# Altium integrated library Motorola Microprocessor 8-Bit.IntLib: 126 symbols (part 1 of 3)
Pins are listed as number, name and electrical type; pins without a type are passive.

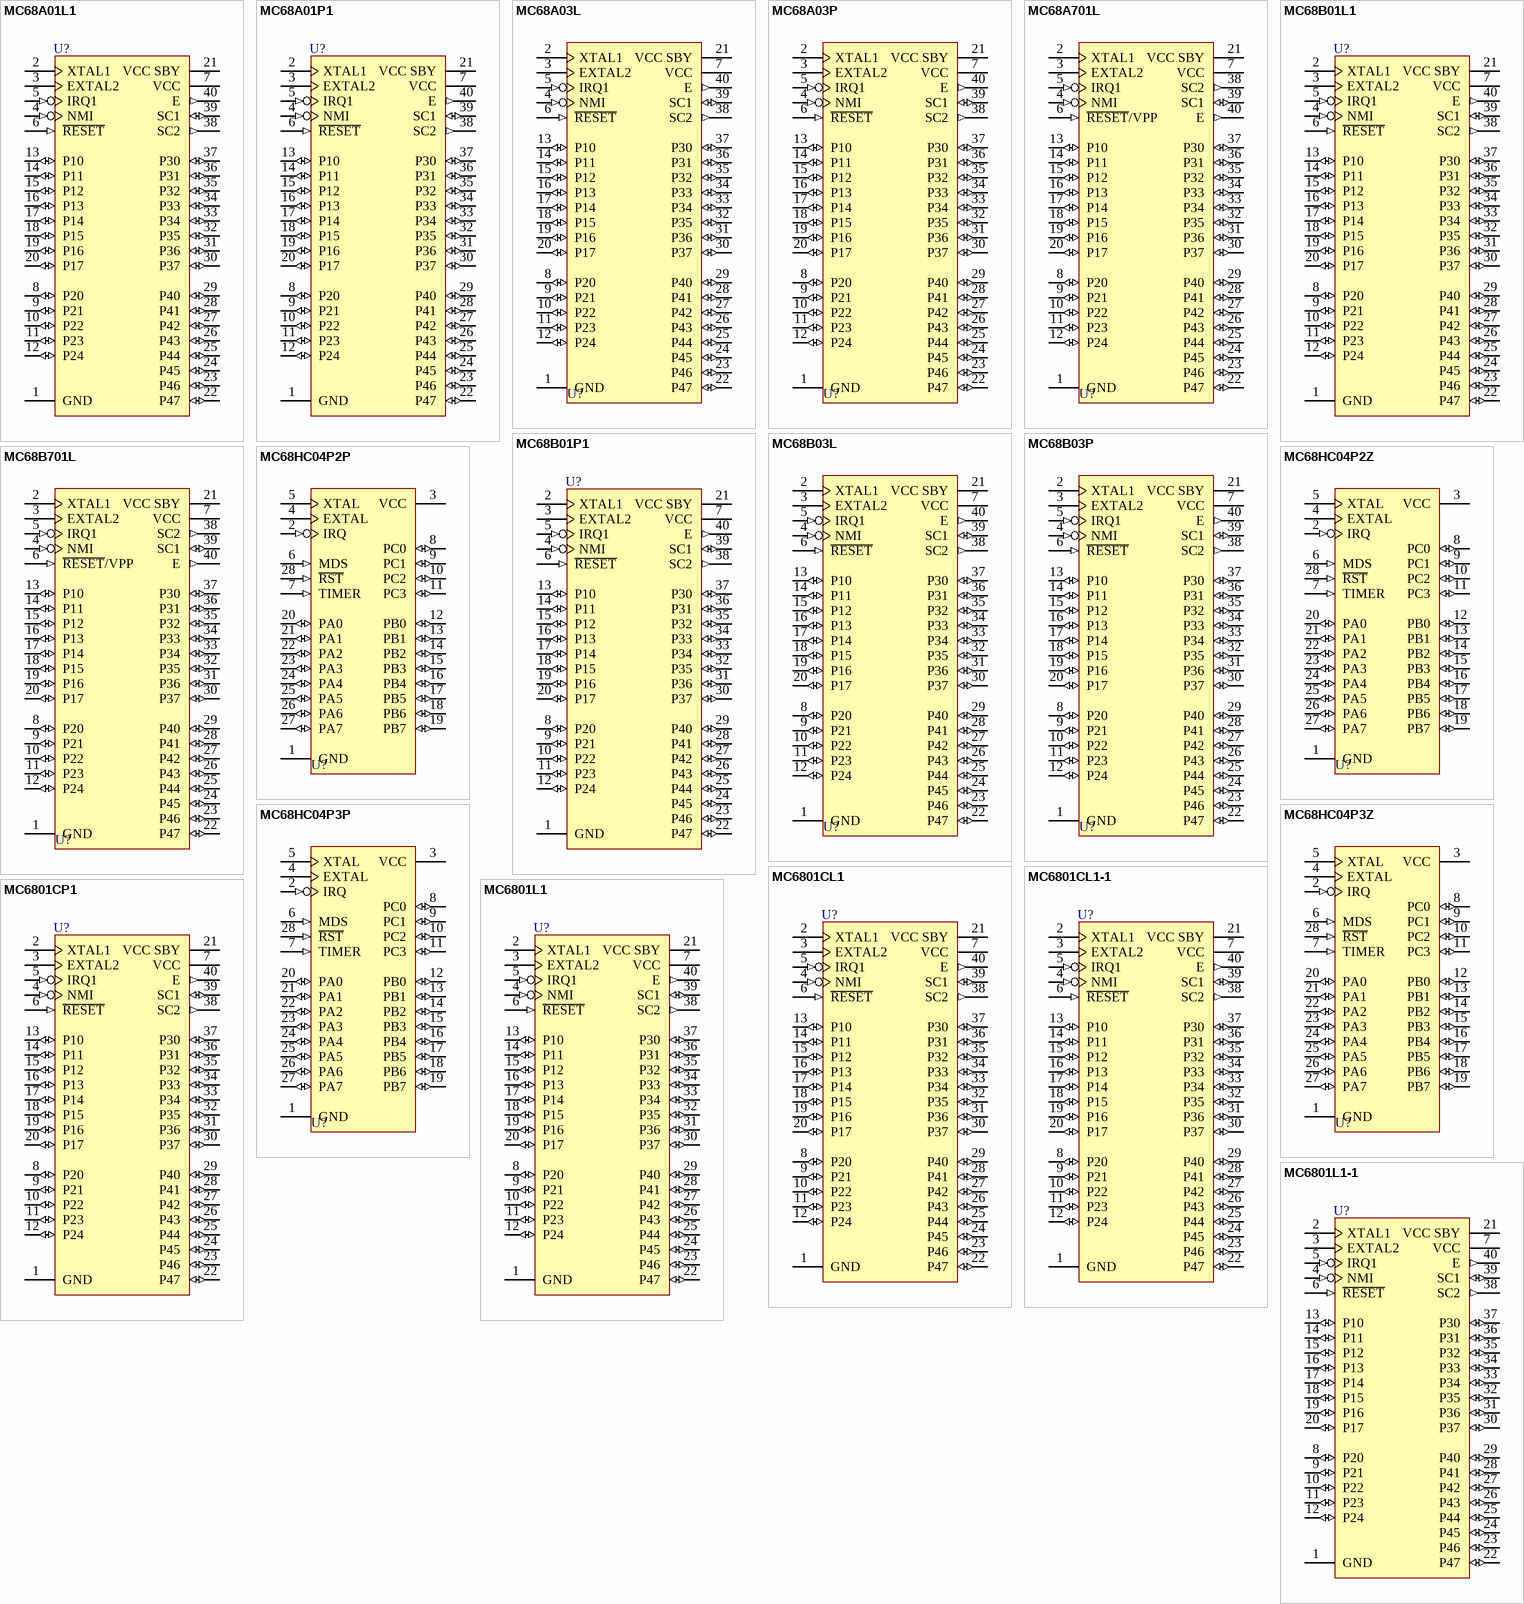
[diagram p0: symbols MC68A01L1 to MC6801L1-1]

## MC68A01L1
designator U?
8-Bit Microcomputer; Published: 17-Jul-2002; LatestRevisionDate: 06-Jun-2005; LatestRevisionNote: Stylized 3D Model Added.; DatasheetVersion: 1984; PackageReference: 715-05; Publisher: Altium Limited; PackageDescription: DIP; 40 Leads; Row Spacing 15.24 mm; Pitch 2.54 mm
footprint 715-05 (DIP; 40 Leads; Row Spacing 15.24 mm; Pitch 2.54 mm)
3D model 715-05 (DIP; 40 Leads; Row Spacing 15.24 mm; Pitch 2.54 mm)
pins: 1 GND (power), 2 XTAL1, 3 EXTAL2, 4 NMI (in), 5 IRQ1 (in), 6 ~{RESET} (in), 7 VCC (power), 8 P20 (io), 9 P21 (io), 10 P22 (io), 11 P23 (io), 12 P24 (io), 13 P10 (io), 14 P11 (io), 15 P12 (io), 16 P13 (io), 17 P14 (io), 18 P15 (io), 19 P16 (io), 20 P17 (io), 21 VCC SBY (power), 22 P47 (io), 23 P46 (io), 24 P45 (io), 25 P44 (io), 26 P43 (io), 27 P42 (io), 28 P41 (io), 29 P40 (io), 30 P37 (io), 31 P36 (io), 32 P35 (io), 33 P34 (io), 34 P33 (io), 35 P32 (io), 36 P31 (io), 37 P30 (io), 38 SC2 (out), 39 SC1 (io), 40 E (out)

## MC68A01P1
designator U?
8-Bit Microcomputer; Published: 17-Jul-2002; LatestRevisionDate: 06-Jun-2005; LatestRevisionNote: Stylized 3D Model Added.; DatasheetVersion: 1984; PackageReference: 711-03; Publisher: Altium Limited; PackageDescription: DIP; 40 Leads; Row Spacing 15.24 mm; Pitch 2.54 mm
footprint 711-03 (DIP; 40 Leads; Row Spacing 15.24 mm; Pitch 2.54 mm)
3D model 711-03 (DIP; 40 Leads; Row Spacing 15.24 mm; Pitch 2.54 mm)
pins: 1 GND (power), 2 XTAL1, 3 EXTAL2, 4 NMI (in), 5 IRQ1 (in), 6 ~{RESET} (in), 7 VCC (power), 8 P20 (io), 9 P21 (io), 10 P22 (io), 11 P23 (io), 12 P24 (io), 13 P10 (io), 14 P11 (io), 15 P12 (io), 16 P13 (io), 17 P14 (io), 18 P15 (io), 19 P16 (io), 20 P17 (io), 21 VCC SBY (power), 22 P47 (io), 23 P46 (io), 24 P45 (io), 25 P44 (io), 26 P43 (io), 27 P42 (io), 28 P41 (io), 29 P40 (io), 30 P37 (io), 31 P36 (io), 32 P35 (io), 33 P34 (io), 34 P33 (io), 35 P32 (io), 36 P31 (io), 37 P30 (io), 38 SC2 (out), 39 SC1 (io), 40 E (out)

## MC68A03L
designator U?
8-Bit Microcomputer; Published: 17-Jul-2002; LatestRevisionDate: 06-Jun-2005; LatestRevisionNote: Stylized 3D Model Added.; DatasheetVersion: 1984; PackageReference: 715-05; Publisher: Altium Limited; PackageDescription: DIP; 40 Leads; Row Spacing 15.24 mm; Pitch 2.54 mm
footprint 715-05 (DIP; 40 Leads; Row Spacing 15.24 mm; Pitch 2.54 mm)
3D model 715-05 (DIP; 40 Leads; Row Spacing 15.24 mm; Pitch 2.54 mm)
pins: 1 GND (power), 2 XTAL1, 3 EXTAL2, 4 NMI (in), 5 IRQ1 (in), 6 ~{RESET} (in), 7 VCC (power), 8 P20 (io), 9 P21 (io), 10 P22 (io), 11 P23 (io), 12 P24 (io), 13 P10 (io), 14 P11 (io), 15 P12 (io), 16 P13 (io), 17 P14 (io), 18 P15 (io), 19 P16 (io), 20 P17 (io), 21 VCC SBY (power), 22 P47 (io), 23 P46 (io), 24 P45 (io), 25 P44 (io), 26 P43 (io), 27 P42 (io), 28 P41 (io), 29 P40 (io), 30 P37 (io), 31 P36 (io), 32 P35 (io), 33 P34 (io), 34 P33 (io), 35 P32 (io), 36 P31 (io), 37 P30 (io), 38 SC2 (out), 39 SC1 (io), 40 E (out)

## MC68A03P
designator U?
8-Bit Microcomputer; Published: 17-Jul-2002; LatestRevisionDate: 06-Jun-2005; LatestRevisionNote: Stylized 3D Model Added.; DatasheetVersion: 1984; PackageReference: 711-03; Publisher: Altium Limited; PackageDescription: DIP; 40 Leads; Row Spacing 15.24 mm; Pitch 2.54 mm
footprint 711-03 (DIP; 40 Leads; Row Spacing 15.24 mm; Pitch 2.54 mm)
3D model 711-03 (DIP; 40 Leads; Row Spacing 15.24 mm; Pitch 2.54 mm)
pins: 1 GND (power), 2 XTAL1, 3 EXTAL2, 4 NMI (in), 5 IRQ1 (in), 6 ~{RESET} (in), 7 VCC (power), 8 P20 (io), 9 P21 (io), 10 P22 (io), 11 P23 (io), 12 P24 (io), 13 P10 (io), 14 P11 (io), 15 P12 (io), 16 P13 (io), 17 P14 (io), 18 P15 (io), 19 P16 (io), 20 P17 (io), 21 VCC SBY (power), 22 P47 (io), 23 P46 (io), 24 P45 (io), 25 P44 (io), 26 P43 (io), 27 P42 (io), 28 P41 (io), 29 P40 (io), 30 P37 (io), 31 P36 (io), 32 P35 (io), 33 P34 (io), 34 P33 (io), 35 P32 (io), 36 P31 (io), 37 P30 (io), 38 SC2 (out), 39 SC1 (io), 40 E (out)

## MC68A701L
designator U?
EPROM Microcomputer; Published: 17-Jul-2002; LatestRevisionDate: 06-Jun-2005; LatestRevisionNote: Stylized 3D Model Added.; DatasheetVersion: 1984; PackageReference: 715-06; Publisher: Altium Limited; PackageDescription: DIP; 40 Leads; Row Spacing 15.24 mm; Pitch 2.54 mm
footprint 715-06 (DIP; 40 Leads; Row Spacing 15.24 mm; Pitch 2.54 mm)
3D model 715-05 (DIP; 40 Leads; Row Spacing 15.24 mm; Pitch 2.54 mm)
pins: 1 GND (power), 2 XTAL1, 3 EXTAL2, 4 NMI (in), 5 IRQ1 (in), 6 ~{RESET}/VPP (in), 7 VCC (power), 8 P20 (io), 9 P21 (io), 10 P22 (io), 11 P23 (io), 12 P24 (io), 13 P10 (io), 14 P11 (io), 15 P12 (io), 16 P13 (io), 17 P14 (io), 18 P15 (io), 19 P16 (io), 20 P17 (io), 21 VCC SBY (power), 22 P47 (io), 23 P46 (io), 24 P45 (io), 25 P44 (io), 26 P43 (io), 27 P42 (io), 28 P41 (io), 29 P40 (io), 30 P37 (io), 31 P36 (io), 32 P35 (io), 33 P34 (io), 34 P33 (io), 35 P32 (io), 36 P31 (io), 37 P30 (io), 38 SC2 (out), 39 SC1 (io), 40 E (out)

## MC68B01L1
designator U?
8-Bit Microcomputer; Published: 17-Jul-2002; LatestRevisionDate: 06-Jun-2005; LatestRevisionNote: Stylized 3D Model Added.; DatasheetVersion: 1984; PackageReference: 715-05; Publisher: Altium Limited; PackageDescription: DIP; 40 Leads; Row Spacing 15.24 mm; Pitch 2.54 mm
footprint 715-05 (DIP; 40 Leads; Row Spacing 15.24 mm; Pitch 2.54 mm)
3D model 715-05 (DIP; 40 Leads; Row Spacing 15.24 mm; Pitch 2.54 mm)
pins: 1 GND (power), 2 XTAL1, 3 EXTAL2, 4 NMI (in), 5 IRQ1 (in), 6 ~{RESET} (in), 7 VCC (power), 8 P20 (io), 9 P21 (io), 10 P22 (io), 11 P23 (io), 12 P24 (io), 13 P10 (io), 14 P11 (io), 15 P12 (io), 16 P13 (io), 17 P14 (io), 18 P15 (io), 19 P16 (io), 20 P17 (io), 21 VCC SBY (power), 22 P47 (io), 23 P46 (io), 24 P45 (io), 25 P44 (io), 26 P43 (io), 27 P42 (io), 28 P41 (io), 29 P40 (io), 30 P37 (io), 31 P36 (io), 32 P35 (io), 33 P34 (io), 34 P33 (io), 35 P32 (io), 36 P31 (io), 37 P30 (io), 38 SC2 (out), 39 SC1 (io), 40 E (out)

## MC68B01P1
designator U?
8-Bit Microcomputer; Published: 17-Jul-2002; LatestRevisionDate: 06-Jun-2005; LatestRevisionNote: Stylized 3D Model Added.; DatasheetVersion: 1984; PackageReference: 711-03; Publisher: Altium Limited; PackageDescription: DIP; 40 Leads; Row Spacing 15.24 mm; Pitch 2.54 mm
footprint 711-03 (DIP; 40 Leads; Row Spacing 15.24 mm; Pitch 2.54 mm)
3D model 711-03 (DIP; 40 Leads; Row Spacing 15.24 mm; Pitch 2.54 mm)
pins: 1 GND (power), 2 XTAL1, 3 EXTAL2, 4 NMI (in), 5 IRQ1 (in), 6 ~{RESET} (in), 7 VCC (power), 8 P20 (io), 9 P21 (io), 10 P22 (io), 11 P23 (io), 12 P24 (io), 13 P10 (io), 14 P11 (io), 15 P12 (io), 16 P13 (io), 17 P14 (io), 18 P15 (io), 19 P16 (io), 20 P17 (io), 21 VCC SBY (power), 22 P47 (io), 23 P46 (io), 24 P45 (io), 25 P44 (io), 26 P43 (io), 27 P42 (io), 28 P41 (io), 29 P40 (io), 30 P37 (io), 31 P36 (io), 32 P35 (io), 33 P34 (io), 34 P33 (io), 35 P32 (io), 36 P31 (io), 37 P30 (io), 38 SC2 (out), 39 SC1 (io), 40 E (out)

## MC68B03L
designator U?
8-Bit Microcomputer; Published: 17-Jul-2002; LatestRevisionDate: 06-Jun-2005; LatestRevisionNote: Stylized 3D Model Added.; DatasheetVersion: 1984; PackageReference: 715-05; Publisher: Altium Limited; PackageDescription: DIP; 40 Leads; Row Spacing 15.24 mm; Pitch 2.54 mm
footprint 715-05 (DIP; 40 Leads; Row Spacing 15.24 mm; Pitch 2.54 mm)
3D model 715-05 (DIP; 40 Leads; Row Spacing 15.24 mm; Pitch 2.54 mm)
pins: 1 GND (power), 2 XTAL1, 3 EXTAL2, 4 NMI (in), 5 IRQ1 (in), 6 ~{RESET} (in), 7 VCC (power), 8 P20 (io), 9 P21 (io), 10 P22 (io), 11 P23 (io), 12 P24 (io), 13 P10 (io), 14 P11 (io), 15 P12 (io), 16 P13 (io), 17 P14 (io), 18 P15 (io), 19 P16 (io), 20 P17 (io), 21 VCC SBY (power), 22 P47 (io), 23 P46 (io), 24 P45 (io), 25 P44 (io), 26 P43 (io), 27 P42 (io), 28 P41 (io), 29 P40 (io), 30 P37 (io), 31 P36 (io), 32 P35 (io), 33 P34 (io), 34 P33 (io), 35 P32 (io), 36 P31 (io), 37 P30 (io), 38 SC2 (out), 39 SC1 (io), 40 E (out)

## MC68B03P
designator U?
8-Bit Microcomputer; Published: 17-Jul-2002; LatestRevisionDate: 06-Jun-2005; LatestRevisionNote: Stylized 3D Model Added.; DatasheetVersion: 1984; PackageReference: 711-03; Publisher: Altium Limited; PackageDescription: DIP; 40 Leads; Row Spacing 15.24 mm; Pitch 2.54 mm
footprint 711-03 (DIP; 40 Leads; Row Spacing 15.24 mm; Pitch 2.54 mm)
3D model 711-03 (DIP; 40 Leads; Row Spacing 15.24 mm; Pitch 2.54 mm)
pins: 1 GND (power), 2 XTAL1, 3 EXTAL2, 4 NMI (in), 5 IRQ1 (in), 6 ~{RESET} (in), 7 VCC (power), 8 P20 (io), 9 P21 (io), 10 P22 (io), 11 P23 (io), 12 P24 (io), 13 P10 (io), 14 P11 (io), 15 P12 (io), 16 P13 (io), 17 P14 (io), 18 P15 (io), 19 P16 (io), 20 P17 (io), 21 VCC SBY (power), 22 P47 (io), 23 P46 (io), 24 P45 (io), 25 P44 (io), 26 P43 (io), 27 P42 (io), 28 P41 (io), 29 P40 (io), 30 P37 (io), 31 P36 (io), 32 P35 (io), 33 P34 (io), 34 P33 (io), 35 P32 (io), 36 P31 (io), 37 P30 (io), 38 SC2 (out), 39 SC1 (io), 40 E (out)

## MC68B701L
designator U?
EPROM Microcomputer; Published: 17-Jul-2002; LatestRevisionDate: 06-Jun-2005; LatestRevisionNote: Stylized 3D Model Added.; DatasheetVersion: 1984; PackageReference: 715-06; Publisher: Altium Limited; PackageDescription: DIP; 40 Leads; Row Spacing 15.24 mm; Pitch 2.54 mm
footprint 715-06 (DIP; 40 Leads; Row Spacing 15.24 mm; Pitch 2.54 mm)
3D model 715-05 (DIP; 40 Leads; Row Spacing 15.24 mm; Pitch 2.54 mm)
pins: 1 GND (power), 2 XTAL1, 3 EXTAL2, 4 NMI (in), 5 IRQ1 (in), 6 ~{RESET}/VPP (in), 7 VCC (power), 8 P20 (io), 9 P21 (io), 10 P22 (io), 11 P23 (io), 12 P24 (io), 13 P10 (io), 14 P11 (io), 15 P12 (io), 16 P13 (io), 17 P14 (io), 18 P15 (io), 19 P16 (io), 20 P17 (io), 21 VCC SBY (power), 22 P47 (io), 23 P46 (io), 24 P45 (io), 25 P44 (io), 26 P43 (io), 27 P42 (io), 28 P41 (io), 29 P40 (io), 30 P37 (io), 31 P36 (io), 32 P35 (io), 33 P34 (io), 34 P33 (io), 35 P32 (io), 36 P31 (io), 37 P30 (io), 38 SC2 (out), 39 SC1 (io), 40 E (out)

## MC68HC04P2P
designator U?
8-Bit HCMOS Microcomputer Unit; Published: 17-Jul-2002; LatestRevisionDate: 06-Jun-2005; LatestRevisionNote: Stylized 3D Model Added.; DatasheetVersion: 1984; PackageReference: 710-02; Publisher: Altium Limited; PackageDescription: DIP; 28 Leads; Row Spacing 15.24 mm; Pitch 2.54 mm
footprint 710-02 (DIP; 28 Leads; Row Spacing 15.24 mm; Pitch 2.54 mm)
3D model 710-02 (DIP; 28 Leads; Row Spacing 15.24 mm; Pitch 2.54 mm)
pins: 1 GND (power), 2 IRQ (in), 3 VCC (power), 4 EXTAL, 5 XTAL, 6 MDS (in), 7 TIMER (in), 8 PC0 (io), 9 PC1 (io), 10 PC2 (io), 11 PC3 (io), 12 PB0 (io), 13 PB1 (io), 14 PB2 (io), 15 PB3 (io), 16 PB4 (io), 17 PB5 (io), 18 PB6 (io), 19 PB7 (io), 20 PA0 (io), 21 PA1 (io), 22 PA2 (io), 23 PA3 (io), 24 PA4 (io), 25 PA5 (io), 26 PA6 (io), 27 PA7 (io), 28 ~{RST} (in)

## MC68HC04P2Z
designator U?
8-Bit HCMOS Microcomputer Unit; Published: 17-Jul-2002; DatasheetVersion: 1984; PackageReference: 761-01; Publisher: Altium Limited; PackageDescription: Leadless Chip Carrier; 40 Terminals; Body 12.3 x 12.3 mm; Pitch 1.016 mm
footprint 761-01 (Leadless Chip Carrier; 40 Terminals; Body 12.3 x 12.3 mm; Pitch 1.016 mm)
pins: 1 GND (power), 2 IRQ (in), 3 VCC (power), 4 EXTAL, 5 XTAL, 6 MDS (in), 7 TIMER (in), 8 PC0 (io), 9 PC1 (io), 10 PC2 (io), 11 PC3 (io), 12 PB0 (io), 13 PB1 (io), 14 PB2 (io), 15 PB3 (io), 16 PB4 (io), 17 PB5 (io), 18 PB6 (io), 19 PB7 (io), 20 PA0 (io), 21 PA1 (io), 22 PA2 (io), 23 PA3 (io), 24 PA4 (io), 25 PA5 (io), 26 PA6 (io), 27 PA7 (io), 28 ~{RST} (in)

## MC68HC04P3P
designator U?
8-Bit HCMOS Microcomputer Unit; Published: 17-Jul-2002; LatestRevisionDate: 06-Jun-2005; LatestRevisionNote: Stylized 3D Model Added.; DatasheetVersion: 1984; PackageReference: 710-02; Publisher: Altium Limited; PackageDescription: DIP; 28 Leads; Row Spacing 15.24 mm; Pitch 2.54 mm
footprint 710-02 (DIP; 28 Leads; Row Spacing 15.24 mm; Pitch 2.54 mm)
3D model 710-02 (DIP; 28 Leads; Row Spacing 15.24 mm; Pitch 2.54 mm)
pins: 1 GND (power), 2 IRQ (in), 3 VCC (power), 4 EXTAL, 5 XTAL, 6 MDS (in), 7 TIMER (in), 8 PC0 (io), 9 PC1 (io), 10 PC2 (io), 11 PC3 (io), 12 PB0 (io), 13 PB1 (io), 14 PB2 (io), 15 PB3 (io), 16 PB4 (io), 17 PB5 (io), 18 PB6 (io), 19 PB7 (io), 20 PA0 (io), 21 PA1 (io), 22 PA2 (io), 23 PA3 (io), 24 PA4 (io), 25 PA5 (io), 26 PA6 (io), 27 PA7 (io), 28 ~{RST} (in)

## MC68HC04P3Z
designator U?
8-Bit HCMOS Microcomputer Unit; Published: 17-Jul-2002; DatasheetVersion: 1984; PackageReference: 761-01; Publisher: Altium Limited; PackageDescription: Leadless Chip Carrier; 40 Terminals; Body 12.3 x 12.3 mm; Pitch 1.016 mm
footprint 761-01 (Leadless Chip Carrier; 40 Terminals; Body 12.3 x 12.3 mm; Pitch 1.016 mm)
pins: 1 GND (power), 2 IRQ (in), 3 VCC (power), 4 EXTAL, 5 XTAL, 6 MDS (in), 7 TIMER (in), 8 PC0 (io), 9 PC1 (io), 10 PC2 (io), 11 PC3 (io), 12 PB0 (io), 13 PB1 (io), 14 PB2 (io), 15 PB3 (io), 16 PB4 (io), 17 PB5 (io), 18 PB6 (io), 19 PB7 (io), 20 PA0 (io), 21 PA1 (io), 22 PA2 (io), 23 PA3 (io), 24 PA4 (io), 25 PA5 (io), 26 PA6 (io), 27 PA7 (io), 28 ~{RST} (in)

## MC6801CL1
designator U?
8-Bit Microcomputer; Published: 17-Jul-2002; LatestRevisionDate: 06-Jun-2005; LatestRevisionNote: Stylized 3D Model Added.; DatasheetVersion: 1984; PackageReference: 715-05; Publisher: Altium Limited; PackageDescription: DIP; 40 Leads; Row Spacing 15.24 mm; Pitch 2.54 mm
footprint 715-05 (DIP; 40 Leads; Row Spacing 15.24 mm; Pitch 2.54 mm)
3D model 715-05 (DIP; 40 Leads; Row Spacing 15.24 mm; Pitch 2.54 mm)
pins: 1 GND (power), 2 XTAL1, 3 EXTAL2, 4 NMI (in), 5 IRQ1 (in), 6 ~{RESET} (in), 7 VCC (power), 8 P20 (io), 9 P21 (io), 10 P22 (io), 11 P23 (io), 12 P24 (io), 13 P10 (io), 14 P11 (io), 15 P12 (io), 16 P13 (io), 17 P14 (io), 18 P15 (io), 19 P16 (io), 20 P17 (io), 21 VCC SBY (power), 22 P47 (io), 23 P46 (io), 24 P45 (io), 25 P44 (io), 26 P43 (io), 27 P42 (io), 28 P41 (io), 29 P40 (io), 30 P37 (io), 31 P36 (io), 32 P35 (io), 33 P34 (io), 34 P33 (io), 35 P32 (io), 36 P31 (io), 37 P30 (io), 38 SC2 (out), 39 SC1 (io), 40 E (out)

## MC6801CL1-1
designator U?
8-Bit Microcomputer; Published: 17-Jul-2002; LatestRevisionDate: 06-Jun-2005; LatestRevisionNote: Stylized 3D Model Added.; DatasheetVersion: 1984; PackageReference: 715-05; Publisher: Altium Limited; PackageDescription: DIP; 40 Leads; Row Spacing 15.24 mm; Pitch 2.54 mm
footprint 715-05 (DIP; 40 Leads; Row Spacing 15.24 mm; Pitch 2.54 mm)
3D model 715-05 (DIP; 40 Leads; Row Spacing 15.24 mm; Pitch 2.54 mm)
pins: 1 GND (power), 2 XTAL1, 3 EXTAL2, 4 NMI (in), 5 IRQ1 (in), 6 ~{RESET} (in), 7 VCC (power), 8 P20 (io), 9 P21 (io), 10 P22 (io), 11 P23 (io), 12 P24 (io), 13 P10 (io), 14 P11 (io), 15 P12 (io), 16 P13 (io), 17 P14 (io), 18 P15 (io), 19 P16 (io), 20 P17 (io), 21 VCC SBY (power), 22 P47 (io), 23 P46 (io), 24 P45 (io), 25 P44 (io), 26 P43 (io), 27 P42 (io), 28 P41 (io), 29 P40 (io), 30 P37 (io), 31 P36 (io), 32 P35 (io), 33 P34 (io), 34 P33 (io), 35 P32 (io), 36 P31 (io), 37 P30 (io), 38 SC2 (out), 39 SC1 (io), 40 E (out)

## MC6801CP1
designator U?
8-Bit Microcomputer; Published: 17-Jul-2002; LatestRevisionDate: 06-Jun-2005; LatestRevisionNote: Stylized 3D Model Added.; DatasheetVersion: 1984; PackageReference: 711-03; Publisher: Altium Limited; PackageDescription: DIP; 40 Leads; Row Spacing 15.24 mm; Pitch 2.54 mm
footprint 711-03 (DIP; 40 Leads; Row Spacing 15.24 mm; Pitch 2.54 mm)
3D model 711-03 (DIP; 40 Leads; Row Spacing 15.24 mm; Pitch 2.54 mm)
pins: 1 GND (power), 2 XTAL1, 3 EXTAL2, 4 NMI (in), 5 IRQ1 (in), 6 ~{RESET} (in), 7 VCC (power), 8 P20 (io), 9 P21 (io), 10 P22 (io), 11 P23 (io), 12 P24 (io), 13 P10 (io), 14 P11 (io), 15 P12 (io), 16 P13 (io), 17 P14 (io), 18 P15 (io), 19 P16 (io), 20 P17 (io), 21 VCC SBY (power), 22 P47 (io), 23 P46 (io), 24 P45 (io), 25 P44 (io), 26 P43 (io), 27 P42 (io), 28 P41 (io), 29 P40 (io), 30 P37 (io), 31 P36 (io), 32 P35 (io), 33 P34 (io), 34 P33 (io), 35 P32 (io), 36 P31 (io), 37 P30 (io), 38 SC2 (out), 39 SC1 (io), 40 E (out)

## MC6801L1
designator U?
8-Bit Microcomputer; Published: 17-Jul-2002; LatestRevisionDate: 06-Jun-2005; LatestRevisionNote: Stylized 3D Model Added.; DatasheetVersion: 1984; PackageReference: 715-05; Publisher: Altium Limited; PackageDescription: DIP; 40 Leads; Row Spacing 15.24 mm; Pitch 2.54 mm
footprint 715-05 (DIP; 40 Leads; Row Spacing 15.24 mm; Pitch 2.54 mm)
3D model 715-05 (DIP; 40 Leads; Row Spacing 15.24 mm; Pitch 2.54 mm)
pins: 1 GND (power), 2 XTAL1, 3 EXTAL2, 4 NMI (in), 5 IRQ1 (in), 6 ~{RESET} (in), 7 VCC (power), 8 P20 (io), 9 P21 (io), 10 P22 (io), 11 P23 (io), 12 P24 (io), 13 P10 (io), 14 P11 (io), 15 P12 (io), 16 P13 (io), 17 P14 (io), 18 P15 (io), 19 P16 (io), 20 P17 (io), 21 VCC SBY (power), 22 P47 (io), 23 P46 (io), 24 P45 (io), 25 P44 (io), 26 P43 (io), 27 P42 (io), 28 P41 (io), 29 P40 (io), 30 P37 (io), 31 P36 (io), 32 P35 (io), 33 P34 (io), 34 P33 (io), 35 P32 (io), 36 P31 (io), 37 P30 (io), 38 SC2 (out), 39 SC1 (io), 40 E (out)

## MC6801L1-1
designator U?
8-Bit Microcomputer; Published: 17-Jul-2002; LatestRevisionDate: 06-Jun-2005; LatestRevisionNote: Stylized 3D Model Added.; DatasheetVersion: 1984; PackageReference: 715-05; Publisher: Altium Limited; PackageDescription: DIP; 40 Leads; Row Spacing 15.24 mm; Pitch 2.54 mm
footprint 715-05 (DIP; 40 Leads; Row Spacing 15.24 mm; Pitch 2.54 mm)
3D model 715-05 (DIP; 40 Leads; Row Spacing 15.24 mm; Pitch 2.54 mm)
pins: 1 GND (power), 2 XTAL1, 3 EXTAL2, 4 NMI (in), 5 IRQ1 (in), 6 ~{RESET} (in), 7 VCC (power), 8 P20 (io), 9 P21 (io), 10 P22 (io), 11 P23 (io), 12 P24 (io), 13 P10 (io), 14 P11 (io), 15 P12 (io), 16 P13 (io), 17 P14 (io), 18 P15 (io), 19 P16 (io), 20 P17 (io), 21 VCC SBY (power), 22 P47 (io), 23 P46 (io), 24 P45 (io), 25 P44 (io), 26 P43 (io), 27 P42 (io), 28 P41 (io), 29 P40 (io), 30 P37 (io), 31 P36 (io), 32 P35 (io), 33 P34 (io), 34 P33 (io), 35 P32 (io), 36 P31 (io), 37 P30 (io), 38 SC2 (out), 39 SC1 (io), 40 E (out)

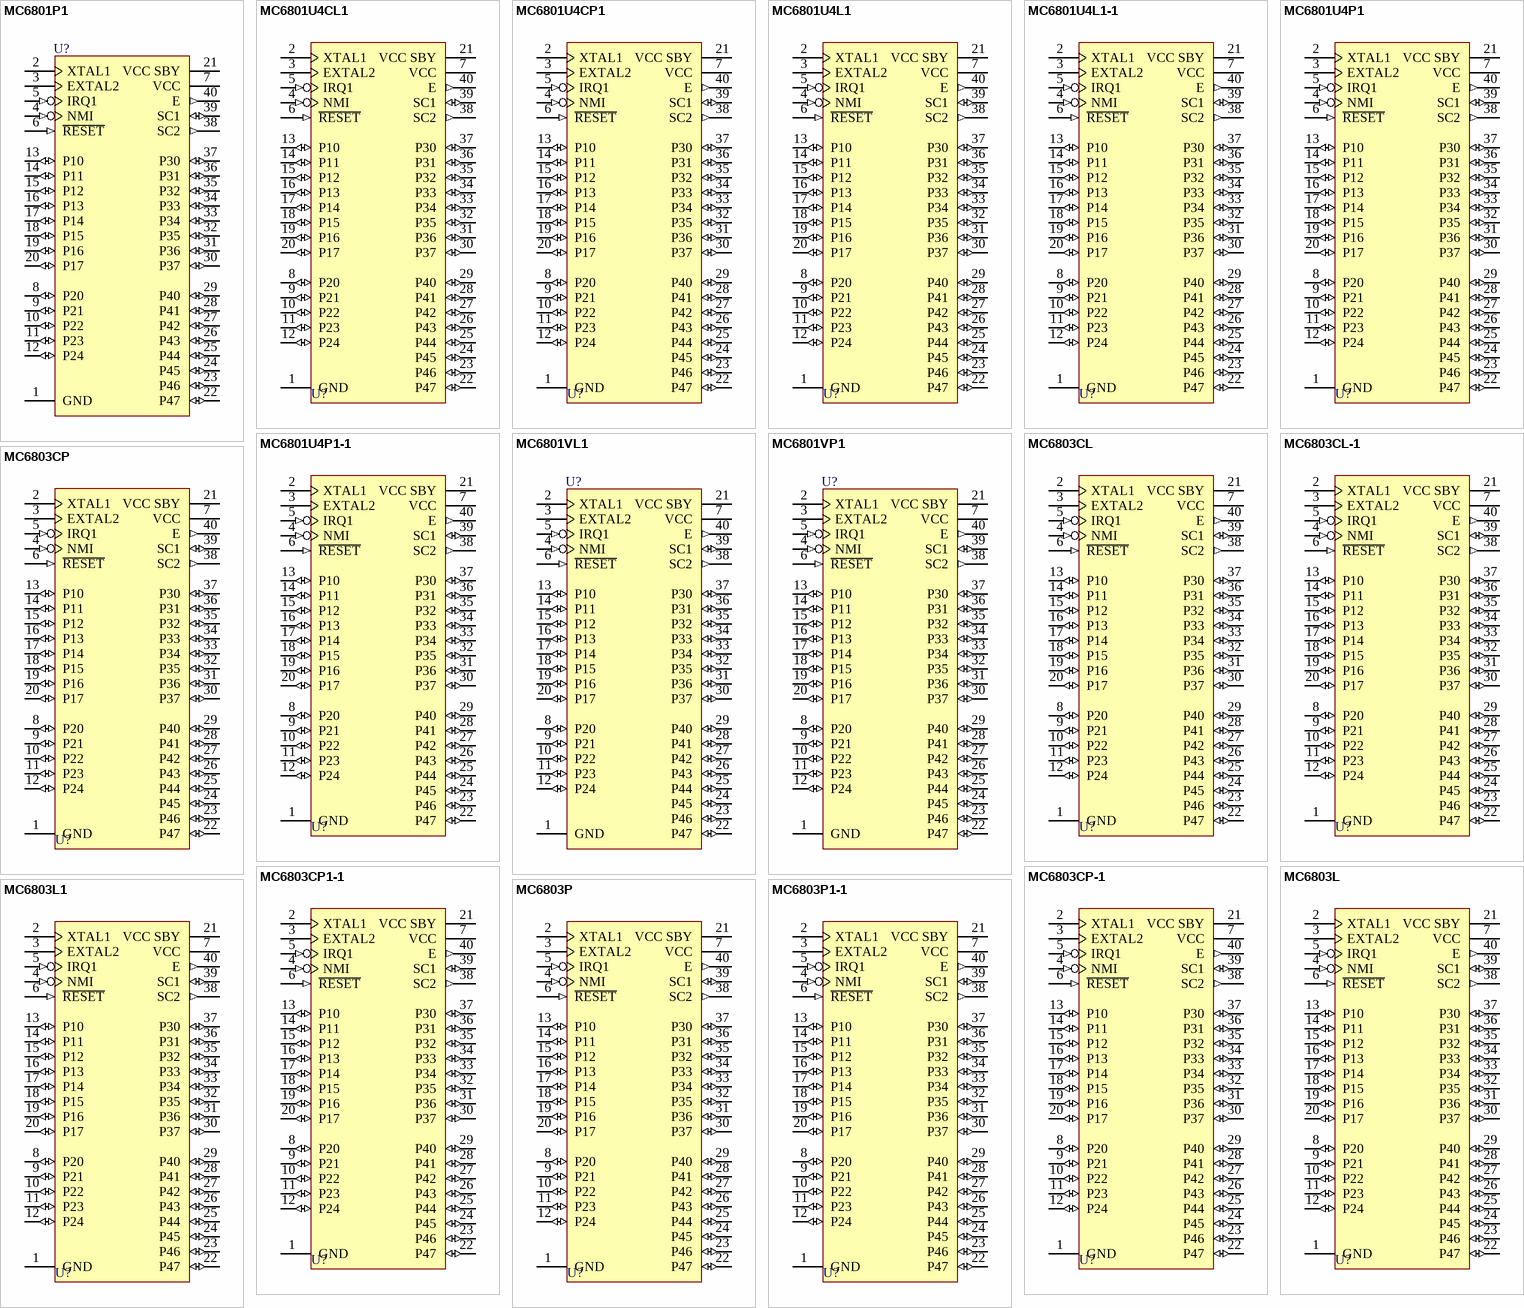
[diagram p1: symbols MC6801P1 to MC6803P1-1]

## MC6801P1
designator U?
8-Bit Microcomputer; Published: 17-Jul-2002; LatestRevisionDate: 06-Jun-2005; LatestRevisionNote: Stylized 3D Model Added.; DatasheetVersion: 1984; PackageReference: 711-03; Publisher: Altium Limited; PackageDescription: DIP; 40 Leads; Row Spacing 15.24 mm; Pitch 2.54 mm
footprint 711-03 (DIP; 40 Leads; Row Spacing 15.24 mm; Pitch 2.54 mm)
3D model 711-03 (DIP; 40 Leads; Row Spacing 15.24 mm; Pitch 2.54 mm)
pins: 1 GND (power), 2 XTAL1, 3 EXTAL2, 4 NMI (in), 5 IRQ1 (in), 6 ~{RESET} (in), 7 VCC (power), 8 P20 (io), 9 P21 (io), 10 P22 (io), 11 P23 (io), 12 P24 (io), 13 P10 (io), 14 P11 (io), 15 P12 (io), 16 P13 (io), 17 P14 (io), 18 P15 (io), 19 P16 (io), 20 P17 (io), 21 VCC SBY (power), 22 P47 (io), 23 P46 (io), 24 P45 (io), 25 P44 (io), 26 P43 (io), 27 P42 (io), 28 P41 (io), 29 P40 (io), 30 P37 (io), 31 P36 (io), 32 P35 (io), 33 P34 (io), 34 P33 (io), 35 P32 (io), 36 P31 (io), 37 P30 (io), 38 SC2 (out), 39 SC1 (io), 40 E (out)

## MC6801U4CL1
designator U?
8-Bit Microcomputer; Published: 17-Jul-2002; LatestRevisionDate: 06-Jun-2005; LatestRevisionNote: Stylized 3D Model Added.; DatasheetVersion: 1984; PackageReference: 715-05; Publisher: Altium Limited; PackageDescription: DIP; 40 Leads; Row Spacing 15.24 mm; Pitch 2.54 mm
footprint 715-05 (DIP; 40 Leads; Row Spacing 15.24 mm; Pitch 2.54 mm)
3D model 715-05 (DIP; 40 Leads; Row Spacing 15.24 mm; Pitch 2.54 mm)
pins: 1 GND (power), 2 XTAL1, 3 EXTAL2, 4 NMI (in), 5 IRQ1 (in), 6 ~{RESET} (in), 7 VCC (power), 8 P20 (io), 9 P21 (io), 10 P22 (io), 11 P23 (io), 12 P24 (io), 13 P10 (io), 14 P11 (io), 15 P12 (io), 16 P13 (io), 17 P14 (io), 18 P15 (io), 19 P16 (io), 20 P17 (io), 21 VCC SBY (power), 22 P47 (io), 23 P46 (io), 24 P45 (io), 25 P44 (io), 26 P43 (io), 27 P42 (io), 28 P41 (io), 29 P40 (io), 30 P37 (io), 31 P36 (io), 32 P35 (io), 33 P34 (io), 34 P33 (io), 35 P32 (io), 36 P31 (io), 37 P30 (io), 38 SC2 (out), 39 SC1 (io), 40 E (out)

## MC6801U4CP1
designator U?
8-Bit Microcomputer; Published: 17-Jul-2002; LatestRevisionDate: 06-Jun-2005; LatestRevisionNote: Stylized 3D Model Added.; DatasheetVersion: 1984; PackageReference: 711-03; Publisher: Altium Limited; PackageDescription: DIP; 40 Leads; Row Spacing 15.24 mm; Pitch 2.54 mm
footprint 711-03 (DIP; 40 Leads; Row Spacing 15.24 mm; Pitch 2.54 mm)
3D model 711-03 (DIP; 40 Leads; Row Spacing 15.24 mm; Pitch 2.54 mm)
pins: 1 GND (power), 2 XTAL1, 3 EXTAL2, 4 NMI (in), 5 IRQ1 (in), 6 ~{RESET} (in), 7 VCC (power), 8 P20 (io), 9 P21 (io), 10 P22 (io), 11 P23 (io), 12 P24 (io), 13 P10 (io), 14 P11 (io), 15 P12 (io), 16 P13 (io), 17 P14 (io), 18 P15 (io), 19 P16 (io), 20 P17 (io), 21 VCC SBY (power), 22 P47 (io), 23 P46 (io), 24 P45 (io), 25 P44 (io), 26 P43 (io), 27 P42 (io), 28 P41 (io), 29 P40 (io), 30 P37 (io), 31 P36 (io), 32 P35 (io), 33 P34 (io), 34 P33 (io), 35 P32 (io), 36 P31 (io), 37 P30 (io), 38 SC2 (out), 39 SC1 (io), 40 E (out)

## MC6801U4L1
designator U?
8-Bit Microcomputer; Published: 17-Jul-2002; LatestRevisionDate: 06-Jun-2005; LatestRevisionNote: Stylized 3D Model Added.; DatasheetVersion: 1984; PackageReference: 715-05; Publisher: Altium Limited; PackageDescription: DIP; 40 Leads; Row Spacing 15.24 mm; Pitch 2.54 mm
footprint 715-05 (DIP; 40 Leads; Row Spacing 15.24 mm; Pitch 2.54 mm)
3D model 715-05 (DIP; 40 Leads; Row Spacing 15.24 mm; Pitch 2.54 mm)
pins: 1 GND (power), 2 XTAL1, 3 EXTAL2, 4 NMI (in), 5 IRQ1 (in), 6 ~{RESET} (in), 7 VCC (power), 8 P20 (io), 9 P21 (io), 10 P22 (io), 11 P23 (io), 12 P24 (io), 13 P10 (io), 14 P11 (io), 15 P12 (io), 16 P13 (io), 17 P14 (io), 18 P15 (io), 19 P16 (io), 20 P17 (io), 21 VCC SBY (power), 22 P47 (io), 23 P46 (io), 24 P45 (io), 25 P44 (io), 26 P43 (io), 27 P42 (io), 28 P41 (io), 29 P40 (io), 30 P37 (io), 31 P36 (io), 32 P35 (io), 33 P34 (io), 34 P33 (io), 35 P32 (io), 36 P31 (io), 37 P30 (io), 38 SC2 (out), 39 SC1 (io), 40 E (out)

## MC6801U4L1-1
designator U?
8-Bit Microcomputer; Published: 17-Jul-2002; LatestRevisionDate: 06-Jun-2005; LatestRevisionNote: Stylized 3D Model Added.; DatasheetVersion: 1984; PackageReference: 715-05; Publisher: Altium Limited; PackageDescription: DIP; 40 Leads; Row Spacing 15.24 mm; Pitch 2.54 mm
footprint 715-05 (DIP; 40 Leads; Row Spacing 15.24 mm; Pitch 2.54 mm)
3D model 715-05 (DIP; 40 Leads; Row Spacing 15.24 mm; Pitch 2.54 mm)
pins: 1 GND (power), 2 XTAL1, 3 EXTAL2, 4 NMI (in), 5 IRQ1 (in), 6 ~{RESET} (in), 7 VCC (power), 8 P20 (io), 9 P21 (io), 10 P22 (io), 11 P23 (io), 12 P24 (io), 13 P10 (io), 14 P11 (io), 15 P12 (io), 16 P13 (io), 17 P14 (io), 18 P15 (io), 19 P16 (io), 20 P17 (io), 21 VCC SBY (power), 22 P47 (io), 23 P46 (io), 24 P45 (io), 25 P44 (io), 26 P43 (io), 27 P42 (io), 28 P41 (io), 29 P40 (io), 30 P37 (io), 31 P36 (io), 32 P35 (io), 33 P34 (io), 34 P33 (io), 35 P32 (io), 36 P31 (io), 37 P30 (io), 38 SC2 (out), 39 SC1 (io), 40 E (out)

## MC6801U4P1
designator U?
8-Bit Microcomputer; Published: 17-Jul-2002; LatestRevisionDate: 06-Jun-2005; LatestRevisionNote: Stylized 3D Model Added.; DatasheetVersion: 1984; PackageReference: 711-03; Publisher: Altium Limited; PackageDescription: DIP; 40 Leads; Row Spacing 15.24 mm; Pitch 2.54 mm
footprint 711-03 (DIP; 40 Leads; Row Spacing 15.24 mm; Pitch 2.54 mm)
3D model 711-03 (DIP; 40 Leads; Row Spacing 15.24 mm; Pitch 2.54 mm)
pins: 1 GND (power), 2 XTAL1, 3 EXTAL2, 4 NMI (in), 5 IRQ1 (in), 6 ~{RESET} (in), 7 VCC (power), 8 P20 (io), 9 P21 (io), 10 P22 (io), 11 P23 (io), 12 P24 (io), 13 P10 (io), 14 P11 (io), 15 P12 (io), 16 P13 (io), 17 P14 (io), 18 P15 (io), 19 P16 (io), 20 P17 (io), 21 VCC SBY (power), 22 P47 (io), 23 P46 (io), 24 P45 (io), 25 P44 (io), 26 P43 (io), 27 P42 (io), 28 P41 (io), 29 P40 (io), 30 P37 (io), 31 P36 (io), 32 P35 (io), 33 P34 (io), 34 P33 (io), 35 P32 (io), 36 P31 (io), 37 P30 (io), 38 SC2 (out), 39 SC1 (io), 40 E (out)

## MC6801U4P1-1
designator U?
8-Bit Microcomputer; Published: 17-Jul-2002; LatestRevisionDate: 06-Jun-2005; LatestRevisionNote: Stylized 3D Model Added.; DatasheetVersion: 1984; PackageReference: 711-03; Publisher: Altium Limited; PackageDescription: DIP; 40 Leads; Row Spacing 15.24 mm; Pitch 2.54 mm
footprint 711-03 (DIP; 40 Leads; Row Spacing 15.24 mm; Pitch 2.54 mm)
3D model 711-03 (DIP; 40 Leads; Row Spacing 15.24 mm; Pitch 2.54 mm)
pins: 1 GND (power), 2 XTAL1, 3 EXTAL2, 4 NMI (in), 5 IRQ1 (in), 6 ~{RESET} (in), 7 VCC (power), 8 P20 (io), 9 P21 (io), 10 P22 (io), 11 P23 (io), 12 P24 (io), 13 P10 (io), 14 P11 (io), 15 P12 (io), 16 P13 (io), 17 P14 (io), 18 P15 (io), 19 P16 (io), 20 P17 (io), 21 VCC SBY (power), 22 P47 (io), 23 P46 (io), 24 P45 (io), 25 P44 (io), 26 P43 (io), 27 P42 (io), 28 P41 (io), 29 P40 (io), 30 P37 (io), 31 P36 (io), 32 P35 (io), 33 P34 (io), 34 P33 (io), 35 P32 (io), 36 P31 (io), 37 P30 (io), 38 SC2 (out), 39 SC1 (io), 40 E (out)

## MC6801VL1
designator U?
8-Bit Microcomputer; Published: 17-Jul-2002; LatestRevisionDate: 06-Jun-2005; LatestRevisionNote: Stylized 3D Model Added.; DatasheetVersion: 1984; PackageReference: 715-05; Publisher: Altium Limited; PackageDescription: DIP; 40 Leads; Row Spacing 15.24 mm; Pitch 2.54 mm
footprint 715-05 (DIP; 40 Leads; Row Spacing 15.24 mm; Pitch 2.54 mm)
3D model 715-05 (DIP; 40 Leads; Row Spacing 15.24 mm; Pitch 2.54 mm)
pins: 1 GND (power), 2 XTAL1, 3 EXTAL2, 4 NMI (in), 5 IRQ1 (in), 6 ~{RESET} (in), 7 VCC (power), 8 P20 (io), 9 P21 (io), 10 P22 (io), 11 P23 (io), 12 P24 (io), 13 P10 (io), 14 P11 (io), 15 P12 (io), 16 P13 (io), 17 P14 (io), 18 P15 (io), 19 P16 (io), 20 P17 (io), 21 VCC SBY (power), 22 P47 (io), 23 P46 (io), 24 P45 (io), 25 P44 (io), 26 P43 (io), 27 P42 (io), 28 P41 (io), 29 P40 (io), 30 P37 (io), 31 P36 (io), 32 P35 (io), 33 P34 (io), 34 P33 (io), 35 P32 (io), 36 P31 (io), 37 P30 (io), 38 SC2 (out), 39 SC1 (io), 40 E (out)

## MC6801VP1
designator U?
8-Bit Microcomputer; Published: 17-Jul-2002; LatestRevisionDate: 06-Jun-2005; LatestRevisionNote: Stylized 3D Model Added.; DatasheetVersion: 1984; PackageReference: 711-03; Publisher: Altium Limited; PackageDescription: DIP; 40 Leads; Row Spacing 15.24 mm; Pitch 2.54 mm
footprint 711-03 (DIP; 40 Leads; Row Spacing 15.24 mm; Pitch 2.54 mm)
3D model 711-03 (DIP; 40 Leads; Row Spacing 15.24 mm; Pitch 2.54 mm)
pins: 1 GND (power), 2 XTAL1, 3 EXTAL2, 4 NMI (in), 5 IRQ1 (in), 6 ~{RESET} (in), 7 VCC (power), 8 P20 (io), 9 P21 (io), 10 P22 (io), 11 P23 (io), 12 P24 (io), 13 P10 (io), 14 P11 (io), 15 P12 (io), 16 P13 (io), 17 P14 (io), 18 P15 (io), 19 P16 (io), 20 P17 (io), 21 VCC SBY (power), 22 P47 (io), 23 P46 (io), 24 P45 (io), 25 P44 (io), 26 P43 (io), 27 P42 (io), 28 P41 (io), 29 P40 (io), 30 P37 (io), 31 P36 (io), 32 P35 (io), 33 P34 (io), 34 P33 (io), 35 P32 (io), 36 P31 (io), 37 P30 (io), 38 SC2 (out), 39 SC1 (io), 40 E (out)

## MC6803CL
designator U?
8-Bit Microcomputer; Published: 17-Jul-2002; LatestRevisionDate: 06-Jun-2005; LatestRevisionNote: Stylized 3D Model Added.; DatasheetVersion: 1984; PackageReference: 715-05; Publisher: Altium Limited; PackageDescription: DIP; 40 Leads; Row Spacing 15.24 mm; Pitch 2.54 mm
footprint 715-05 (DIP; 40 Leads; Row Spacing 15.24 mm; Pitch 2.54 mm)
3D model 715-05 (DIP; 40 Leads; Row Spacing 15.24 mm; Pitch 2.54 mm)
pins: 1 GND (power), 2 XTAL1, 3 EXTAL2, 4 NMI (in), 5 IRQ1 (in), 6 ~{RESET} (in), 7 VCC (power), 8 P20 (io), 9 P21 (io), 10 P22 (io), 11 P23 (io), 12 P24 (io), 13 P10 (io), 14 P11 (io), 15 P12 (io), 16 P13 (io), 17 P14 (io), 18 P15 (io), 19 P16 (io), 20 P17 (io), 21 VCC SBY (power), 22 P47 (io), 23 P46 (io), 24 P45 (io), 25 P44 (io), 26 P43 (io), 27 P42 (io), 28 P41 (io), 29 P40 (io), 30 P37 (io), 31 P36 (io), 32 P35 (io), 33 P34 (io), 34 P33 (io), 35 P32 (io), 36 P31 (io), 37 P30 (io), 38 SC2 (out), 39 SC1 (io), 40 E (out)

## MC6803CL-1
designator U?
8-Bit Microcomputer; Published: 17-Jul-2002; LatestRevisionDate: 06-Jun-2005; LatestRevisionNote: Stylized 3D Model Added.; DatasheetVersion: 1984; PackageReference: 715-05; Publisher: Altium Limited; PackageDescription: DIP; 40 Leads; Row Spacing 15.24 mm; Pitch 2.54 mm
footprint 715-05 (DIP; 40 Leads; Row Spacing 15.24 mm; Pitch 2.54 mm)
3D model 715-05 (DIP; 40 Leads; Row Spacing 15.24 mm; Pitch 2.54 mm)
pins: 1 GND (power), 2 XTAL1, 3 EXTAL2, 4 NMI (in), 5 IRQ1 (in), 6 ~{RESET} (in), 7 VCC (power), 8 P20 (io), 9 P21 (io), 10 P22 (io), 11 P23 (io), 12 P24 (io), 13 P10 (io), 14 P11 (io), 15 P12 (io), 16 P13 (io), 17 P14 (io), 18 P15 (io), 19 P16 (io), 20 P17 (io), 21 VCC SBY (power), 22 P47 (io), 23 P46 (io), 24 P45 (io), 25 P44 (io), 26 P43 (io), 27 P42 (io), 28 P41 (io), 29 P40 (io), 30 P37 (io), 31 P36 (io), 32 P35 (io), 33 P34 (io), 34 P33 (io), 35 P32 (io), 36 P31 (io), 37 P30 (io), 38 SC2 (out), 39 SC1 (io), 40 E (out)

## MC6803CP
designator U?
8-Bit Microcomputer; Published: 17-Jul-2002; LatestRevisionDate: 06-Jun-2005; LatestRevisionNote: Stylized 3D Model Added.; DatasheetVersion: 1984; PackageReference: 711-03; Publisher: Altium Limited; PackageDescription: DIP; 40 Leads; Row Spacing 15.24 mm; Pitch 2.54 mm
footprint 711-03 (DIP; 40 Leads; Row Spacing 15.24 mm; Pitch 2.54 mm)
3D model 711-03 (DIP; 40 Leads; Row Spacing 15.24 mm; Pitch 2.54 mm)
pins: 1 GND (power), 2 XTAL1, 3 EXTAL2, 4 NMI (in), 5 IRQ1 (in), 6 ~{RESET} (in), 7 VCC (power), 8 P20 (io), 9 P21 (io), 10 P22 (io), 11 P23 (io), 12 P24 (io), 13 P10 (io), 14 P11 (io), 15 P12 (io), 16 P13 (io), 17 P14 (io), 18 P15 (io), 19 P16 (io), 20 P17 (io), 21 VCC SBY (power), 22 P47 (io), 23 P46 (io), 24 P45 (io), 25 P44 (io), 26 P43 (io), 27 P42 (io), 28 P41 (io), 29 P40 (io), 30 P37 (io), 31 P36 (io), 32 P35 (io), 33 P34 (io), 34 P33 (io), 35 P32 (io), 36 P31 (io), 37 P30 (io), 38 SC2 (out), 39 SC1 (io), 40 E (out)

## MC6803CP1-1
designator U?
8-Bit Microcomputer; Published: 17-Jul-2002; LatestRevisionDate: 06-Jun-2005; LatestRevisionNote: Stylized 3D Model Added.; DatasheetVersion: 1984; PackageReference: 711-03; Publisher: Altium Limited; PackageDescription: DIP; 40 Leads; Row Spacing 15.24 mm; Pitch 2.54 mm
footprint 711-03 (DIP; 40 Leads; Row Spacing 15.24 mm; Pitch 2.54 mm)
3D model 711-03 (DIP; 40 Leads; Row Spacing 15.24 mm; Pitch 2.54 mm)
pins: 1 GND (power), 2 XTAL1, 3 EXTAL2, 4 NMI (in), 5 IRQ1 (in), 6 ~{RESET} (in), 7 VCC (power), 8 P20 (io), 9 P21 (io), 10 P22 (io), 11 P23 (io), 12 P24 (io), 13 P10 (io), 14 P11 (io), 15 P12 (io), 16 P13 (io), 17 P14 (io), 18 P15 (io), 19 P16 (io), 20 P17 (io), 21 VCC SBY (power), 22 P47 (io), 23 P46 (io), 24 P45 (io), 25 P44 (io), 26 P43 (io), 27 P42 (io), 28 P41 (io), 29 P40 (io), 30 P37 (io), 31 P36 (io), 32 P35 (io), 33 P34 (io), 34 P33 (io), 35 P32 (io), 36 P31 (io), 37 P30 (io), 38 SC2 (out), 39 SC1 (io), 40 E (out)

## MC6803CP-1
designator U?
8-Bit Microcomputer; Published: 17-Jul-2002; LatestRevisionDate: 06-Jun-2005; LatestRevisionNote: Stylized 3D Model Added.; DatasheetVersion: 1984; PackageReference: 711-03; Publisher: Altium Limited; PackageDescription: DIP; 40 Leads; Row Spacing 15.24 mm; Pitch 2.54 mm
footprint 711-03 (DIP; 40 Leads; Row Spacing 15.24 mm; Pitch 2.54 mm)
3D model 711-03 (DIP; 40 Leads; Row Spacing 15.24 mm; Pitch 2.54 mm)
pins: 1 GND (power), 2 XTAL1, 3 EXTAL2, 4 NMI (in), 5 IRQ1 (in), 6 ~{RESET} (in), 7 VCC (power), 8 P20 (io), 9 P21 (io), 10 P22 (io), 11 P23 (io), 12 P24 (io), 13 P10 (io), 14 P11 (io), 15 P12 (io), 16 P13 (io), 17 P14 (io), 18 P15 (io), 19 P16 (io), 20 P17 (io), 21 VCC SBY (power), 22 P47 (io), 23 P46 (io), 24 P45 (io), 25 P44 (io), 26 P43 (io), 27 P42 (io), 28 P41 (io), 29 P40 (io), 30 P37 (io), 31 P36 (io), 32 P35 (io), 33 P34 (io), 34 P33 (io), 35 P32 (io), 36 P31 (io), 37 P30 (io), 38 SC2 (out), 39 SC1 (io), 40 E (out)

## MC6803L
designator U?
8-Bit Microcomputer; Published: 17-Jul-2002; LatestRevisionDate: 06-Jun-2005; LatestRevisionNote: Stylized 3D Model Added.; DatasheetVersion: 1984; PackageReference: 715-05; Publisher: Altium Limited; PackageDescription: DIP; 40 Leads; Row Spacing 15.24 mm; Pitch 2.54 mm
footprint 715-05 (DIP; 40 Leads; Row Spacing 15.24 mm; Pitch 2.54 mm)
3D model 715-05 (DIP; 40 Leads; Row Spacing 15.24 mm; Pitch 2.54 mm)
pins: 1 GND (power), 2 XTAL1, 3 EXTAL2, 4 NMI (in), 5 IRQ1 (in), 6 ~{RESET} (in), 7 VCC (power), 8 P20 (io), 9 P21 (io), 10 P22 (io), 11 P23 (io), 12 P24 (io), 13 P10 (io), 14 P11 (io), 15 P12 (io), 16 P13 (io), 17 P14 (io), 18 P15 (io), 19 P16 (io), 20 P17 (io), 21 VCC SBY (power), 22 P47 (io), 23 P46 (io), 24 P45 (io), 25 P44 (io), 26 P43 (io), 27 P42 (io), 28 P41 (io), 29 P40 (io), 30 P37 (io), 31 P36 (io), 32 P35 (io), 33 P34 (io), 34 P33 (io), 35 P32 (io), 36 P31 (io), 37 P30 (io), 38 SC2 (out), 39 SC1 (io), 40 E (out)

## MC6803L1
designator U?
8-Bit Microcomputer; Published: 17-Jul-2002; LatestRevisionDate: 06-Jun-2005; LatestRevisionNote: Stylized 3D Model Added.; DatasheetVersion: 1984; PackageReference: 715-05; Publisher: Altium Limited; PackageDescription: DIP; 40 Leads; Row Spacing 15.24 mm; Pitch 2.54 mm
footprint 715-05 (DIP; 40 Leads; Row Spacing 15.24 mm; Pitch 2.54 mm)
3D model 715-05 (DIP; 40 Leads; Row Spacing 15.24 mm; Pitch 2.54 mm)
pins: 1 GND (power), 2 XTAL1, 3 EXTAL2, 4 NMI (in), 5 IRQ1 (in), 6 ~{RESET} (in), 7 VCC (power), 8 P20 (io), 9 P21 (io), 10 P22 (io), 11 P23 (io), 12 P24 (io), 13 P10 (io), 14 P11 (io), 15 P12 (io), 16 P13 (io), 17 P14 (io), 18 P15 (io), 19 P16 (io), 20 P17 (io), 21 VCC SBY (power), 22 P47 (io), 23 P46 (io), 24 P45 (io), 25 P44 (io), 26 P43 (io), 27 P42 (io), 28 P41 (io), 29 P40 (io), 30 P37 (io), 31 P36 (io), 32 P35 (io), 33 P34 (io), 34 P33 (io), 35 P32 (io), 36 P31 (io), 37 P30 (io), 38 SC2 (out), 39 SC1 (io), 40 E (out)

## MC6803P
designator U?
8-Bit Microcomputer; Published: 17-Jul-2002; LatestRevisionDate: 06-Jun-2005; LatestRevisionNote: Stylized 3D Model Added.; DatasheetVersion: 1984; PackageReference: 711-03; Publisher: Altium Limited; PackageDescription: DIP; 40 Leads; Row Spacing 15.24 mm; Pitch 2.54 mm
footprint 711-03 (DIP; 40 Leads; Row Spacing 15.24 mm; Pitch 2.54 mm)
3D model 711-03 (DIP; 40 Leads; Row Spacing 15.24 mm; Pitch 2.54 mm)
pins: 1 GND (power), 2 XTAL1, 3 EXTAL2, 4 NMI (in), 5 IRQ1 (in), 6 ~{RESET} (in), 7 VCC (power), 8 P20 (io), 9 P21 (io), 10 P22 (io), 11 P23 (io), 12 P24 (io), 13 P10 (io), 14 P11 (io), 15 P12 (io), 16 P13 (io), 17 P14 (io), 18 P15 (io), 19 P16 (io), 20 P17 (io), 21 VCC SBY (power), 22 P47 (io), 23 P46 (io), 24 P45 (io), 25 P44 (io), 26 P43 (io), 27 P42 (io), 28 P41 (io), 29 P40 (io), 30 P37 (io), 31 P36 (io), 32 P35 (io), 33 P34 (io), 34 P33 (io), 35 P32 (io), 36 P31 (io), 37 P30 (io), 38 SC2 (out), 39 SC1 (io), 40 E (out)

## MC6803P1-1
designator U?
8-Bit Microcomputer; Published: 17-Jul-2002; LatestRevisionDate: 06-Jun-2005; LatestRevisionNote: Stylized 3D Model Added.; DatasheetVersion: 1984; PackageReference: 711-03; Publisher: Altium Limited; PackageDescription: DIP; 40 Leads; Row Spacing 15.24 mm; Pitch 2.54 mm
footprint 711-03 (DIP; 40 Leads; Row Spacing 15.24 mm; Pitch 2.54 mm)
3D model 711-03 (DIP; 40 Leads; Row Spacing 15.24 mm; Pitch 2.54 mm)
pins: 1 GND (power), 2 XTAL1, 3 EXTAL2, 4 NMI (in), 5 IRQ1 (in), 6 ~{RESET} (in), 7 VCC (power), 8 P20 (io), 9 P21 (io), 10 P22 (io), 11 P23 (io), 12 P24 (io), 13 P10 (io), 14 P11 (io), 15 P12 (io), 16 P13 (io), 17 P14 (io), 18 P15 (io), 19 P16 (io), 20 P17 (io), 21 VCC SBY (power), 22 P47 (io), 23 P46 (io), 24 P45 (io), 25 P44 (io), 26 P43 (io), 27 P42 (io), 28 P41 (io), 29 P40 (io), 30 P37 (io), 31 P36 (io), 32 P35 (io), 33 P34 (io), 34 P33 (io), 35 P32 (io), 36 P31 (io), 37 P30 (io), 38 SC2 (out), 39 SC1 (io), 40 E (out)

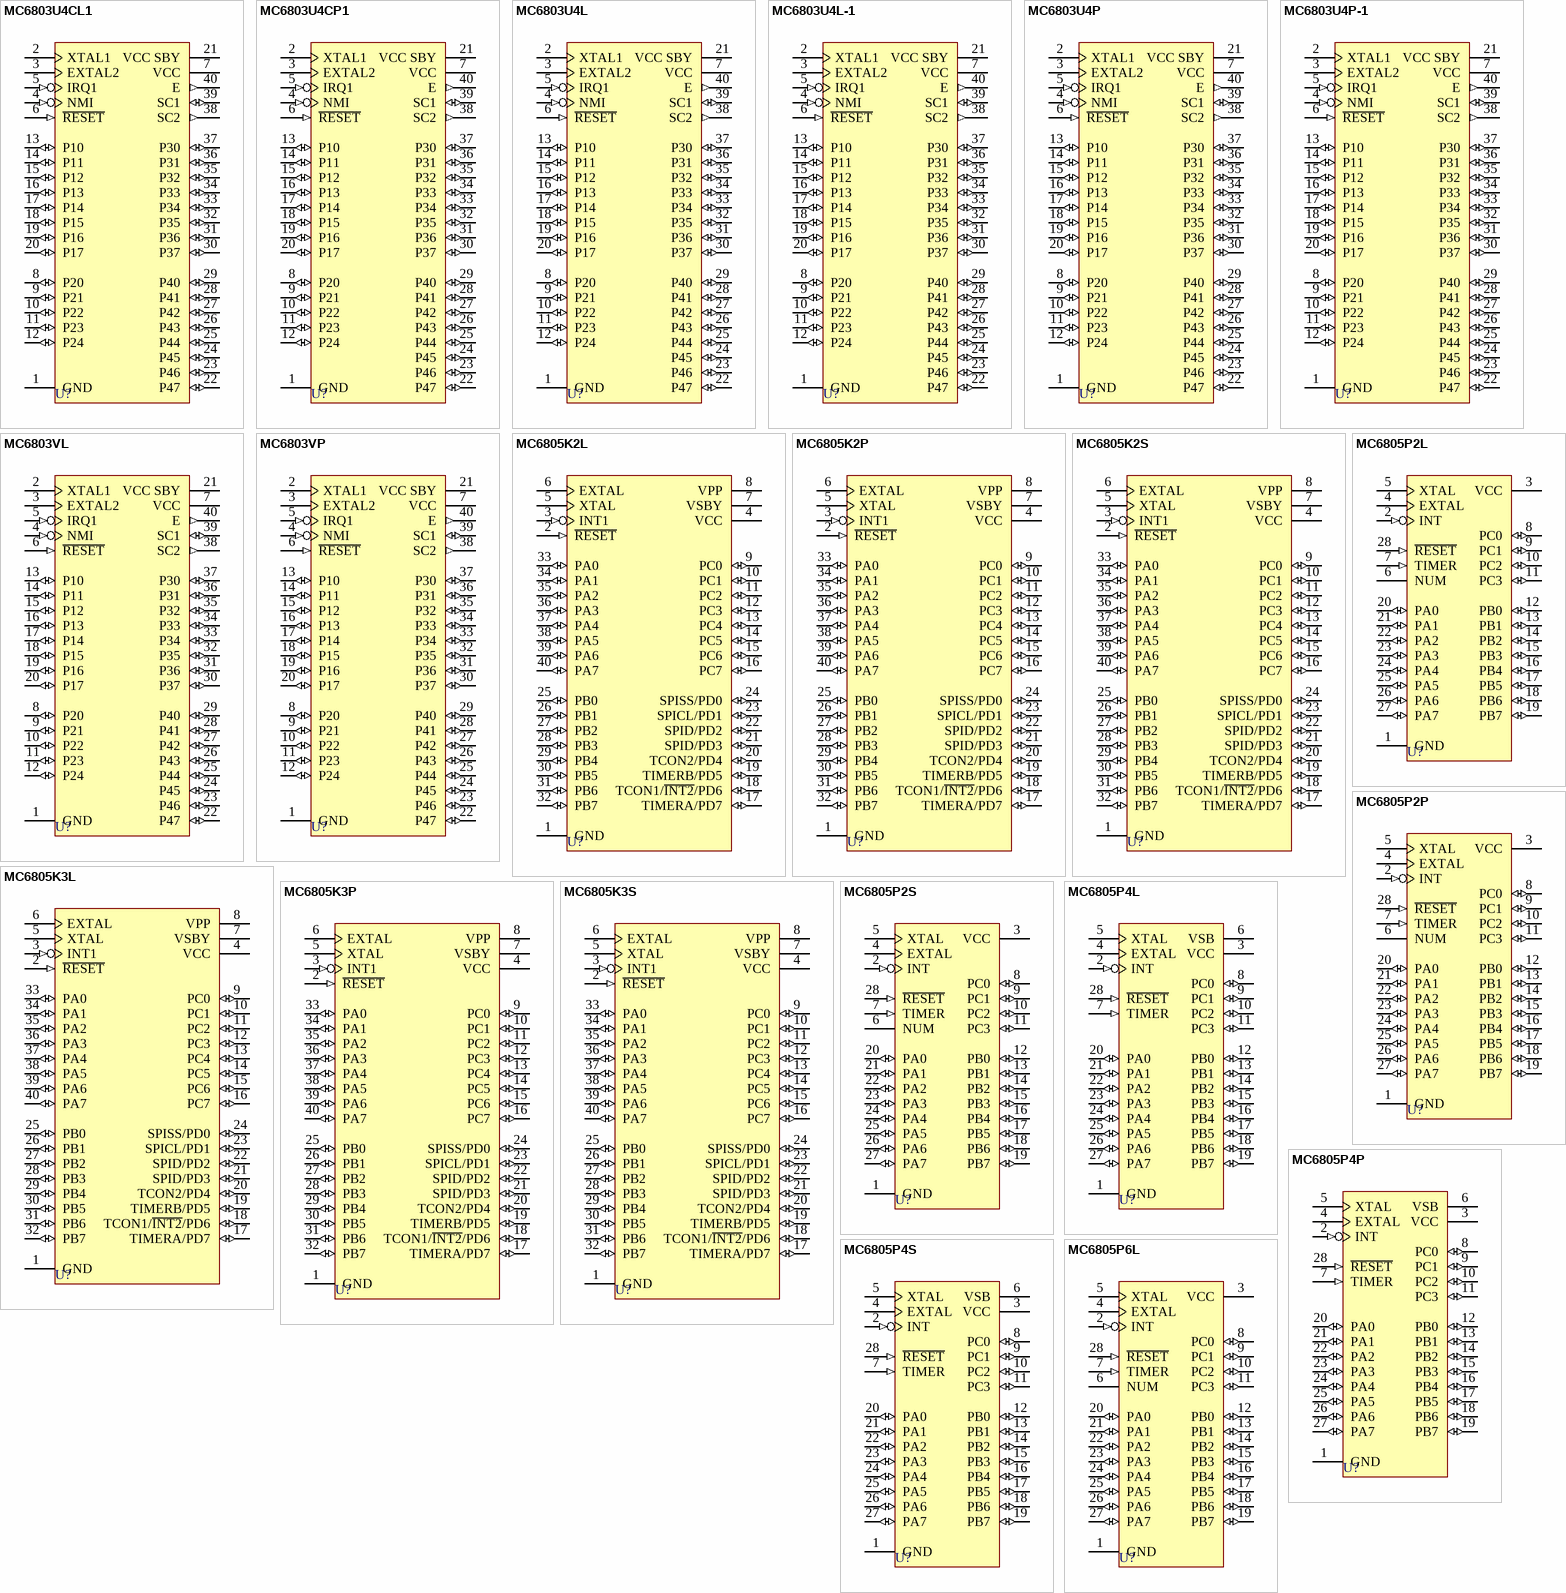
[diagram p2: symbols MC6803U4CL1 to MC6805P6L]

## MC6803U4CL1
designator U?
8-Bit Microcomputer; Published: 17-Jul-2002; LatestRevisionDate: 06-Jun-2005; LatestRevisionNote: Stylized 3D Model Added.; DatasheetVersion: 1984; PackageReference: 715-05; Publisher: Altium Limited; PackageDescription: DIP; 40 Leads; Row Spacing 15.24 mm; Pitch 2.54 mm
footprint 715-05 (DIP; 40 Leads; Row Spacing 15.24 mm; Pitch 2.54 mm)
3D model 715-05 (DIP; 40 Leads; Row Spacing 15.24 mm; Pitch 2.54 mm)
pins: 1 GND (power), 2 XTAL1, 3 EXTAL2, 4 NMI (in), 5 IRQ1 (in), 6 ~{RESET} (in), 7 VCC (power), 8 P20 (io), 9 P21 (io), 10 P22 (io), 11 P23 (io), 12 P24 (io), 13 P10 (io), 14 P11 (io), 15 P12 (io), 16 P13 (io), 17 P14 (io), 18 P15 (io), 19 P16 (io), 20 P17 (io), 21 VCC SBY (power), 22 P47 (io), 23 P46 (io), 24 P45 (io), 25 P44 (io), 26 P43 (io), 27 P42 (io), 28 P41 (io), 29 P40 (io), 30 P37 (io), 31 P36 (io), 32 P35 (io), 33 P34 (io), 34 P33 (io), 35 P32 (io), 36 P31 (io), 37 P30 (io), 38 SC2 (out), 39 SC1 (io), 40 E (out)

## MC6803U4CP1
designator U?
8-Bit Microcomputer; Published: 17-Jul-2002; LatestRevisionDate: 06-Jun-2005; LatestRevisionNote: Stylized 3D Model Added.; DatasheetVersion: 1984; PackageReference: 711-03; Publisher: Altium Limited; PackageDescription: DIP; 40 Leads; Row Spacing 15.24 mm; Pitch 2.54 mm
footprint 711-03 (DIP; 40 Leads; Row Spacing 15.24 mm; Pitch 2.54 mm)
3D model 711-03 (DIP; 40 Leads; Row Spacing 15.24 mm; Pitch 2.54 mm)
pins: 1 GND (power), 2 XTAL1, 3 EXTAL2, 4 NMI (in), 5 IRQ1 (in), 6 ~{RESET} (in), 7 VCC (power), 8 P20 (io), 9 P21 (io), 10 P22 (io), 11 P23 (io), 12 P24 (io), 13 P10 (io), 14 P11 (io), 15 P12 (io), 16 P13 (io), 17 P14 (io), 18 P15 (io), 19 P16 (io), 20 P17 (io), 21 VCC SBY (power), 22 P47 (io), 23 P46 (io), 24 P45 (io), 25 P44 (io), 26 P43 (io), 27 P42 (io), 28 P41 (io), 29 P40 (io), 30 P37 (io), 31 P36 (io), 32 P35 (io), 33 P34 (io), 34 P33 (io), 35 P32 (io), 36 P31 (io), 37 P30 (io), 38 SC2 (out), 39 SC1 (io), 40 E (out)

## MC6803U4L
designator U?
8-Bit Microcomputer; Published: 17-Jul-2002; LatestRevisionDate: 06-Jun-2005; LatestRevisionNote: Stylized 3D Model Added.; DatasheetVersion: 1984; PackageReference: 715-05; Publisher: Altium Limited; PackageDescription: DIP; 40 Leads; Row Spacing 15.24 mm; Pitch 2.54 mm
footprint 715-05 (DIP; 40 Leads; Row Spacing 15.24 mm; Pitch 2.54 mm)
3D model 715-05 (DIP; 40 Leads; Row Spacing 15.24 mm; Pitch 2.54 mm)
pins: 1 GND (power), 2 XTAL1, 3 EXTAL2, 4 NMI (in), 5 IRQ1 (in), 6 ~{RESET} (in), 7 VCC (power), 8 P20 (io), 9 P21 (io), 10 P22 (io), 11 P23 (io), 12 P24 (io), 13 P10 (io), 14 P11 (io), 15 P12 (io), 16 P13 (io), 17 P14 (io), 18 P15 (io), 19 P16 (io), 20 P17 (io), 21 VCC SBY (power), 22 P47 (io), 23 P46 (io), 24 P45 (io), 25 P44 (io), 26 P43 (io), 27 P42 (io), 28 P41 (io), 29 P40 (io), 30 P37 (io), 31 P36 (io), 32 P35 (io), 33 P34 (io), 34 P33 (io), 35 P32 (io), 36 P31 (io), 37 P30 (io), 38 SC2 (out), 39 SC1 (io), 40 E (out)

## MC6803U4L-1
designator U?
8-Bit Microcomputer; Published: 17-Jul-2002; LatestRevisionDate: 06-Jun-2005; LatestRevisionNote: Stylized 3D Model Added.; DatasheetVersion: 1984; PackageReference: 715-05; Publisher: Altium Limited; PackageDescription: DIP; 40 Leads; Row Spacing 15.24 mm; Pitch 2.54 mm
footprint 715-05 (DIP; 40 Leads; Row Spacing 15.24 mm; Pitch 2.54 mm)
3D model 715-05 (DIP; 40 Leads; Row Spacing 15.24 mm; Pitch 2.54 mm)
pins: 1 GND (power), 2 XTAL1, 3 EXTAL2, 4 NMI (in), 5 IRQ1 (in), 6 ~{RESET} (in), 7 VCC (power), 8 P20 (io), 9 P21 (io), 10 P22 (io), 11 P23 (io), 12 P24 (io), 13 P10 (io), 14 P11 (io), 15 P12 (io), 16 P13 (io), 17 P14 (io), 18 P15 (io), 19 P16 (io), 20 P17 (io), 21 VCC SBY (power), 22 P47 (io), 23 P46 (io), 24 P45 (io), 25 P44 (io), 26 P43 (io), 27 P42 (io), 28 P41 (io), 29 P40 (io), 30 P37 (io), 31 P36 (io), 32 P35 (io), 33 P34 (io), 34 P33 (io), 35 P32 (io), 36 P31 (io), 37 P30 (io), 38 SC2 (out), 39 SC1 (io), 40 E (out)

## MC6803U4P
designator U?
8-Bit Microcomputer; Published: 17-Jul-2002; LatestRevisionDate: 06-Jun-2005; LatestRevisionNote: Stylized 3D Model Added.; DatasheetVersion: 1984; PackageReference: 711-03; Publisher: Altium Limited; PackageDescription: DIP; 40 Leads; Row Spacing 15.24 mm; Pitch 2.54 mm
footprint 711-03 (DIP; 40 Leads; Row Spacing 15.24 mm; Pitch 2.54 mm)
3D model 711-03 (DIP; 40 Leads; Row Spacing 15.24 mm; Pitch 2.54 mm)
pins: 1 GND (power), 2 XTAL1, 3 EXTAL2, 4 NMI (in), 5 IRQ1 (in), 6 ~{RESET} (in), 7 VCC (power), 8 P20 (io), 9 P21 (io), 10 P22 (io), 11 P23 (io), 12 P24 (io), 13 P10 (io), 14 P11 (io), 15 P12 (io), 16 P13 (io), 17 P14 (io), 18 P15 (io), 19 P16 (io), 20 P17 (io), 21 VCC SBY (power), 22 P47 (io), 23 P46 (io), 24 P45 (io), 25 P44 (io), 26 P43 (io), 27 P42 (io), 28 P41 (io), 29 P40 (io), 30 P37 (io), 31 P36 (io), 32 P35 (io), 33 P34 (io), 34 P33 (io), 35 P32 (io), 36 P31 (io), 37 P30 (io), 38 SC2 (out), 39 SC1 (io), 40 E (out)

## MC6803U4P-1
designator U?
8-Bit Microcomputer; Published: 17-Jul-2002; LatestRevisionDate: 06-Jun-2005; LatestRevisionNote: Stylized 3D Model Added.; DatasheetVersion: 1984; PackageReference: 711-03; Publisher: Altium Limited; PackageDescription: DIP; 40 Leads; Row Spacing 15.24 mm; Pitch 2.54 mm
footprint 711-03 (DIP; 40 Leads; Row Spacing 15.24 mm; Pitch 2.54 mm)
3D model 711-03 (DIP; 40 Leads; Row Spacing 15.24 mm; Pitch 2.54 mm)
pins: 1 GND (power), 2 XTAL1, 3 EXTAL2, 4 NMI (in), 5 IRQ1 (in), 6 ~{RESET} (in), 7 VCC (power), 8 P20 (io), 9 P21 (io), 10 P22 (io), 11 P23 (io), 12 P24 (io), 13 P10 (io), 14 P11 (io), 15 P12 (io), 16 P13 (io), 17 P14 (io), 18 P15 (io), 19 P16 (io), 20 P17 (io), 21 VCC SBY (power), 22 P47 (io), 23 P46 (io), 24 P45 (io), 25 P44 (io), 26 P43 (io), 27 P42 (io), 28 P41 (io), 29 P40 (io), 30 P37 (io), 31 P36 (io), 32 P35 (io), 33 P34 (io), 34 P33 (io), 35 P32 (io), 36 P31 (io), 37 P30 (io), 38 SC2 (out), 39 SC1 (io), 40 E (out)

## MC6803VL
designator U?
8-Bit Microcomputer; Published: 17-Jul-2002; LatestRevisionDate: 06-Jun-2005; LatestRevisionNote: Stylized 3D Model Added.; DatasheetVersion: 1984; PackageReference: 715-05; Publisher: Altium Limited; PackageDescription: DIP; 40 Leads; Row Spacing 15.24 mm; Pitch 2.54 mm
footprint 715-05 (DIP; 40 Leads; Row Spacing 15.24 mm; Pitch 2.54 mm)
3D model 715-05 (DIP; 40 Leads; Row Spacing 15.24 mm; Pitch 2.54 mm)
pins: 1 GND (power), 2 XTAL1, 3 EXTAL2, 4 NMI (in), 5 IRQ1 (in), 6 ~{RESET} (in), 7 VCC (power), 8 P20 (io), 9 P21 (io), 10 P22 (io), 11 P23 (io), 12 P24 (io), 13 P10 (io), 14 P11 (io), 15 P12 (io), 16 P13 (io), 17 P14 (io), 18 P15 (io), 19 P16 (io), 20 P17 (io), 21 VCC SBY (power), 22 P47 (io), 23 P46 (io), 24 P45 (io), 25 P44 (io), 26 P43 (io), 27 P42 (io), 28 P41 (io), 29 P40 (io), 30 P37 (io), 31 P36 (io), 32 P35 (io), 33 P34 (io), 34 P33 (io), 35 P32 (io), 36 P31 (io), 37 P30 (io), 38 SC2 (out), 39 SC1 (io), 40 E (out)

## MC6803VP
designator U?
8-Bit Microcomputer; Published: 17-Jul-2002; LatestRevisionDate: 06-Jun-2005; LatestRevisionNote: Stylized 3D Model Added.; DatasheetVersion: 1984; PackageReference: 711-03; Publisher: Altium Limited; PackageDescription: DIP; 40 Leads; Row Spacing 15.24 mm; Pitch 2.54 mm
footprint 711-03 (DIP; 40 Leads; Row Spacing 15.24 mm; Pitch 2.54 mm)
3D model 711-03 (DIP; 40 Leads; Row Spacing 15.24 mm; Pitch 2.54 mm)
pins: 1 GND (power), 2 XTAL1, 3 EXTAL2, 4 NMI (in), 5 IRQ1 (in), 6 ~{RESET} (in), 7 VCC (power), 8 P20 (io), 9 P21 (io), 10 P22 (io), 11 P23 (io), 12 P24 (io), 13 P10 (io), 14 P11 (io), 15 P12 (io), 16 P13 (io), 17 P14 (io), 18 P15 (io), 19 P16 (io), 20 P17 (io), 21 VCC SBY (power), 22 P47 (io), 23 P46 (io), 24 P45 (io), 25 P44 (io), 26 P43 (io), 27 P42 (io), 28 P41 (io), 29 P40 (io), 30 P37 (io), 31 P36 (io), 32 P35 (io), 33 P34 (io), 34 P33 (io), 35 P32 (io), 36 P31 (io), 37 P30 (io), 38 SC2 (out), 39 SC1 (io), 40 E (out)

## MC6805K2L
designator U?
8-Bit Microcomputer Unit with Serial Peripheral Interface and 2 Timers; Published: 17-Jul-2002; LatestRevisionDate: 06-Jun-2005; LatestRevisionNote: Stylized 3D Model Added.; DatasheetVersion: 1984; PackageReference: 715-05; Publisher: Altium Limited; PackageDescription: DIP; 40 Leads; Row Spacing 15.24 mm; Pitch 2.54 mm
footprint 715-05 (DIP; 40 Leads; Row Spacing 15.24 mm; Pitch 2.54 mm)
3D model 715-05 (DIP; 40 Leads; Row Spacing 15.24 mm; Pitch 2.54 mm)
pins: 1 GND (power), 2 ~{RESET} (in), 3 INT1 (in), 4 VCC (power), 5 XTAL, 6 EXTAL, 7 VSBY (power), 8 VPP (power), 9 PC0 (io), 10 PC1 (io), 11 PC2 (io), 12 PC3 (io), 13 PC4 (io), 14 PC5 (io), 15 PC6 (io), 16 PC7 (io), 17 TIMERA/PD7 (io), 18 TCON1/~{INT2}/PD6 (io), 19 TIMERB/PD5 (io), 20 TCON2/PD4 (io), 21 SPID/PD3 (io), 22 SPID/PD2 (io), 23 SPICL/PD1 (io), 24 SPISS/PD0 (io), 25 PB0 (io), 26 PB1 (io), 27 PB2 (io), 28 PB3 (io), 29 PB4 (io), 30 PB5 (io), 31 PB6 (io), 32 PB7 (io), 33 PA0 (io), 34 PA1 (io), 35 PA2 (io), 36 PA3 (io), 37 PA4 (io), 38 PA5 (io), 39 PA6 (io), 40 PA7 (io)

## MC6805K2P
designator U?
8-Bit Microcomputer Unit with Serial Peripheral Interface and 2 Timers; Published: 17-Jul-2002; LatestRevisionDate: 06-Jun-2005; LatestRevisionNote: Stylized 3D Model Added.; DatasheetVersion: 1984; PackageReference: 711-03; Publisher: Altium Limited; PackageDescription: DIP; 40 Leads; Row Spacing 15.24 mm; Pitch 2.54 mm
footprint 711-03 (DIP; 40 Leads; Row Spacing 15.24 mm; Pitch 2.54 mm)
3D model 711-03 (DIP; 40 Leads; Row Spacing 15.24 mm; Pitch 2.54 mm)
pins: 1 GND (power), 2 ~{RESET} (in), 3 INT1 (in), 4 VCC (power), 5 XTAL, 6 EXTAL, 7 VSBY (power), 8 VPP (power), 9 PC0 (io), 10 PC1 (io), 11 PC2 (io), 12 PC3 (io), 13 PC4 (io), 14 PC5 (io), 15 PC6 (io), 16 PC7 (io), 17 TIMERA/PD7 (io), 18 TCON1/~{INT2}/PD6 (io), 19 TIMERB/PD5 (io), 20 TCON2/PD4 (io), 21 SPID/PD3 (io), 22 SPID/PD2 (io), 23 SPICL/PD1 (io), 24 SPISS/PD0 (io), 25 PB0 (io), 26 PB1 (io), 27 PB2 (io), 28 PB3 (io), 29 PB4 (io), 30 PB5 (io), 31 PB6 (io), 32 PB7 (io), 33 PA0 (io), 34 PA1 (io), 35 PA2 (io), 36 PA3 (io), 37 PA4 (io), 38 PA5 (io), 39 PA6 (io), 40 PA7 (io)

## MC6805K2S
designator U?
8-Bit Microcomputer Unit with Serial Peripheral Interface and 2 Timers; Published: 17-Jul-2002; LatestRevisionDate: 06-Jun-2005; LatestRevisionNote: Stylized 3D Model Added.; DatasheetVersion: 1984; PackageReference: 734-04; Publisher: Altium Limited; PackageDescription: DIP; 40 Leads; Row Spacing 15.24 mm; Pitch 2.54 mm; Code_JEDEC: MS-011-AC
footprint 734-04 (DIP; 40 Leads; Row Spacing 15.24 mm; Pitch 2.54 mm)
3D model 734-04 (DIP; 40 Leads; Row Spacing 15.24 mm; Pitch 2.54 mm)
pins: 1 GND (power), 2 ~{RESET} (in), 3 INT1 (in), 4 VCC (power), 5 XTAL, 6 EXTAL, 7 VSBY (power), 8 VPP (power), 9 PC0 (io), 10 PC1 (io), 11 PC2 (io), 12 PC3 (io), 13 PC4 (io), 14 PC5 (io), 15 PC6 (io), 16 PC7 (io), 17 TIMERA/PD7 (io), 18 TCON1/~{INT2}/PD6 (io), 19 TIMERB/PD5 (io), 20 TCON2/PD4 (io), 21 SPID/PD3 (io), 22 SPID/PD2 (io), 23 SPICL/PD1 (io), 24 SPISS/PD0 (io), 25 PB0 (io), 26 PB1 (io), 27 PB2 (io), 28 PB3 (io), 29 PB4 (io), 30 PB5 (io), 31 PB6 (io), 32 PB7 (io), 33 PA0 (io), 34 PA1 (io), 35 PA2 (io), 36 PA3 (io), 37 PA4 (io), 38 PA5 (io), 39 PA6 (io), 40 PA7 (io)

## MC6805K3L
designator U?
8-Bit Microcomputer Unit with Serial Peripheral Interface and 2 Timers; Published: 17-Jul-2002; LatestRevisionDate: 06-Jun-2005; LatestRevisionNote: Stylized 3D Model Added.; DatasheetVersion: 1984; PackageReference: 715-05; Publisher: Altium Limited; PackageDescription: DIP; 40 Leads; Row Spacing 15.24 mm; Pitch 2.54 mm
footprint 715-05 (DIP; 40 Leads; Row Spacing 15.24 mm; Pitch 2.54 mm)
3D model 715-05 (DIP; 40 Leads; Row Spacing 15.24 mm; Pitch 2.54 mm)
pins: 1 GND (power), 2 ~{RESET} (in), 3 INT1 (in), 4 VCC (power), 5 XTAL, 6 EXTAL, 7 VSBY (power), 8 VPP (power), 9 PC0 (io), 10 PC1 (io), 11 PC2 (io), 12 PC3 (io), 13 PC4 (io), 14 PC5 (io), 15 PC6 (io), 16 PC7 (io), 17 TIMERA/PD7 (io), 18 TCON1/~{INT2}/PD6 (io), 19 TIMERB/PD5 (io), 20 TCON2/PD4 (io), 21 SPID/PD3 (io), 22 SPID/PD2 (io), 23 SPICL/PD1 (io), 24 SPISS/PD0 (io), 25 PB0 (io), 26 PB1 (io), 27 PB2 (io), 28 PB3 (io), 29 PB4 (io), 30 PB5 (io), 31 PB6 (io), 32 PB7 (io), 33 PA0 (io), 34 PA1 (io), 35 PA2 (io), 36 PA3 (io), 37 PA4 (io), 38 PA5 (io), 39 PA6 (io), 40 PA7 (io)

## MC6805K3P
designator U?
8-Bit Microcomputer Unit with Serial Peripheral Interface and 2 Timers; Published: 17-Jul-2002; LatestRevisionDate: 06-Jun-2005; LatestRevisionNote: Stylized 3D Model Added.; DatasheetVersion: 1984; PackageReference: 711-03; Publisher: Altium Limited; PackageDescription: DIP; 40 Leads; Row Spacing 15.24 mm; Pitch 2.54 mm
footprint 711-03 (DIP; 40 Leads; Row Spacing 15.24 mm; Pitch 2.54 mm)
3D model 711-03 (DIP; 40 Leads; Row Spacing 15.24 mm; Pitch 2.54 mm)
pins: 1 GND (power), 2 ~{RESET} (in), 3 INT1 (in), 4 VCC (power), 5 XTAL, 6 EXTAL, 7 VSBY (power), 8 VPP (power), 9 PC0 (io), 10 PC1 (io), 11 PC2 (io), 12 PC3 (io), 13 PC4 (io), 14 PC5 (io), 15 PC6 (io), 16 PC7 (io), 17 TIMERA/PD7 (io), 18 TCON1/~{INT2}/PD6 (io), 19 TIMERB/PD5 (io), 20 TCON2/PD4 (io), 21 SPID/PD3 (io), 22 SPID/PD2 (io), 23 SPICL/PD1 (io), 24 SPISS/PD0 (io), 25 PB0 (io), 26 PB1 (io), 27 PB2 (io), 28 PB3 (io), 29 PB4 (io), 30 PB5 (io), 31 PB6 (io), 32 PB7 (io), 33 PA0 (io), 34 PA1 (io), 35 PA2 (io), 36 PA3 (io), 37 PA4 (io), 38 PA5 (io), 39 PA6 (io), 40 PA7 (io)

## MC6805K3S
designator U?
8-Bit Microcomputer Unit with Serial Peripheral Interface and 2 Timers; Published: 17-Jul-2002; LatestRevisionDate: 06-Jun-2005; LatestRevisionNote: Stylized 3D Model Added.; DatasheetVersion: 1984; PackageReference: 734-04; Publisher: Altium Limited; PackageDescription: DIP; 40 Leads; Row Spacing 15.24 mm; Pitch 2.54 mm; Code_JEDEC: MS-011-AC
footprint 734-04 (DIP; 40 Leads; Row Spacing 15.24 mm; Pitch 2.54 mm)
3D model 734-04 (DIP; 40 Leads; Row Spacing 15.24 mm; Pitch 2.54 mm)
pins: 1 GND (power), 2 ~{RESET} (in), 3 INT1 (in), 4 VCC (power), 5 XTAL, 6 EXTAL, 7 VSBY (power), 8 VPP (power), 9 PC0 (io), 10 PC1 (io), 11 PC2 (io), 12 PC3 (io), 13 PC4 (io), 14 PC5 (io), 15 PC6 (io), 16 PC7 (io), 17 TIMERA/PD7 (io), 18 TCON1/~{INT2}/PD6 (io), 19 TIMERB/PD5 (io), 20 TCON2/PD4 (io), 21 SPID/PD3 (io), 22 SPID/PD2 (io), 23 SPICL/PD1 (io), 24 SPISS/PD0 (io), 25 PB0 (io), 26 PB1 (io), 27 PB2 (io), 28 PB3 (io), 29 PB4 (io), 30 PB5 (io), 31 PB6 (io), 32 PB7 (io), 33 PA0 (io), 34 PA1 (io), 35 PA2 (io), 36 PA3 (io), 37 PA4 (io), 38 PA5 (io), 39 PA6 (io), 40 PA7 (io)